# EAGLE library part LED-7SEG-KINGBRIGHT-SMD (library jos-ph)
KINGBRIGHT SMD LED 7-SEGMENT ACSC02-41CGKWA-F01 ACSC02-41SURKWA-F01 http://www.kingbrightusa.com/images/catalog/SPEC/ACSC02-41SURKWA-F01.pdf
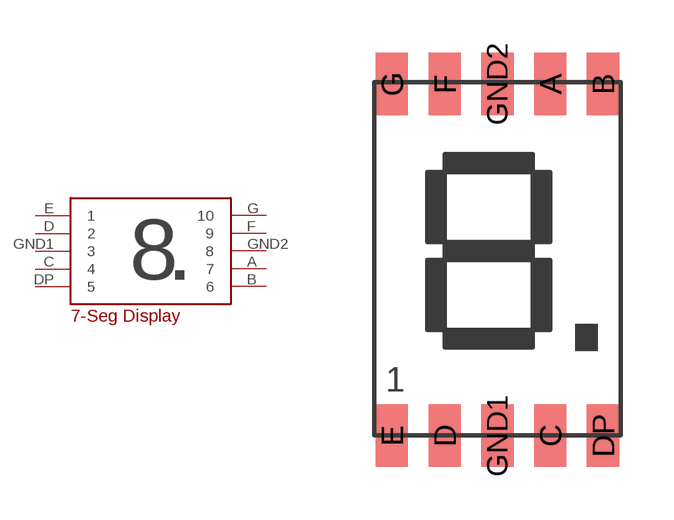
[diagram p11: symbol with the pads of LED-SMD-7SEG-KINGBRIGHT; footprint LED-SMD-7SEG-KINGBRIGHT]

Designator prefix -

## LED-7SEG-KINGBRIGHT-SMD  [LED-SMD-7SEG-KINGBRIGHT]
A  7
B  6
C  4
D  2
DP  5
E  1
F  9
G  10
GND1  3
GND2  8

## Footprint LED-SMD-7SEG-KINGBRIGHT (pad centres in mm)
LED-SMD-7SEG-KINGBRIGHT
smd 0.914 x 1.778: A 1.7,4.7; B 3.2,4.7; C 1.7,-5.3; D -1.3,-5.3; DP 3.2,-5.3; E -2.8,-5.3; F -1.3,4.7; G -2.8,4.7; GND1 0.2,-5.3; GND2 0.2,4.7